# Altium footprint library bmp280_i2c.PcbLib: 1 footprints
Each footprint in its own frame and in the unit in brackets; x right, y up, seen from the top. Pads: shape width x height; smd on the part's side, far side on the other; paste and mask are expansions set on the pad; w line width, h text height; cw(c..) or ccw(c..) is an arc to the next point about the centre after c.
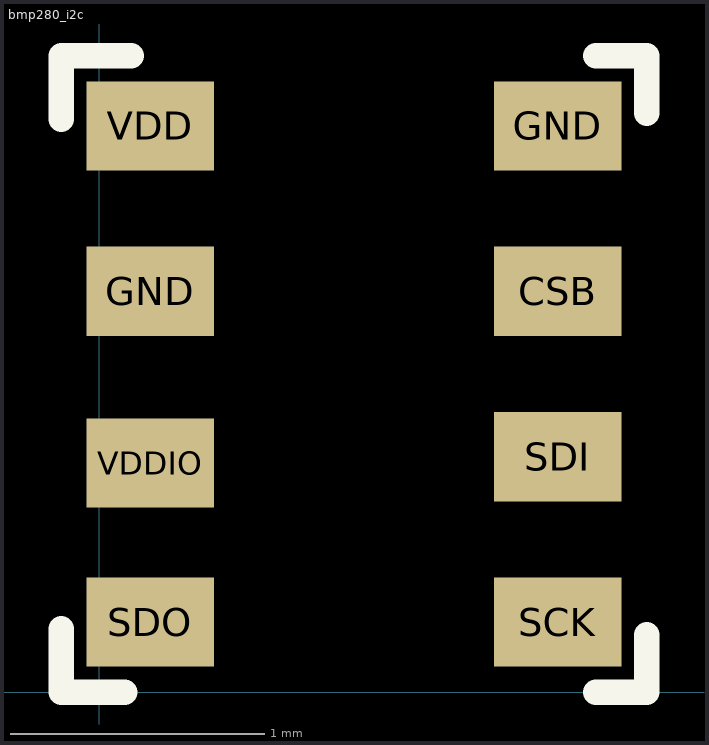
[diagram p0: the footprint, top view; thin cyan lines are the x and y axes]

## bmp280_i2c [mm] "pressure sensor"
pads (8):
  rect 0.5x0.35 smd: CSB(1.8,1.575) GND(0.2,1.575) GND(1.8,2.225) SCK(1.8,0.275) SDI(1.8,0.925) SDO(0.2,0.275) VDD(0.2,2.225) VDDIO(0.2,0.9)
Top Overlay:
  lines w0.1: -0.15,0.25 -0.15,0 0.1,0 ; -0.15,2.25 -0.15,2.5 0.125,2.5 ; 1.95,0 2.15,0 2.15,0.225 ; 1.95,2.5 2.15,2.5 2.15,2.275
3D body: height 1, standoff 0, extent 0,0 2.007,2.489